# EAGLE library part FUS006-8500-0 (library SpiderCell_Libs)
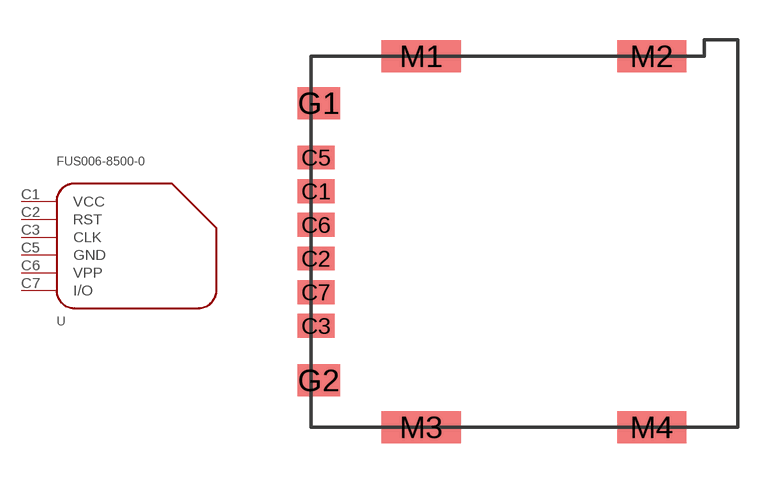
[diagram p1: symbol with the pads of FUS006-8500-0; footprint FUS006-8500-0]

Designator prefix -

## FUS006-8500-0  [FUS006-8500-0]
C1  VCC
C2  RST
C3  CLK
C5  GND
C6  VPP
C7  I/O

## Footprint FUS006-8500-0 (pad centres in mm)
smd 1.4 x 0.9: C1 -15.92,1.905; C2 -15.92,-0.635; C3 -15.92,-3.175; C5 -15.92,3.175; C6 -15.92,0.635; C7 -15.92,-1.905
smd 1.6 x 1.2: G1 -15.82,5.23; G2 -15.82,-5.23
smd 3 x 1.2: M1 -11.95,7; M3 -11.95,-7
smd 2.6 x 1.2: M2 -3.25,7; M4 -3.25,-7